# Altium footprint library Linux-Capable-Business-Card.PcbLib: 18 footprints (part 2 of 2)
Each footprint in its own frame and in the unit in brackets; x right, y up, seen from the top. Pads: shape width x height; smd on the part's side, far side on the other; paste and mask are expansions set on the pad; w line width, h text height; cw(c..) or ccw(c..) is an arc to the next point about the centre after c.
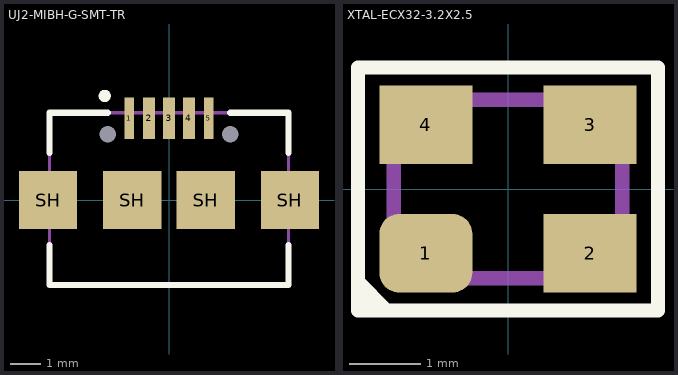
[diagram p1: the footprints below, top view; thin cyan lines are the x and y axes]

## UJ2-MIBH-G-SMT-TR [mm]
height 2.35
pads (11):
  rect 0.3x1.35 smd: 1(-1.3,2.675) 5(1.3,2.675)
  rect 0.4x1.35 smd: 2(-0.65,2.675) 3(0,2.675) 4(0.65,2.675)
  round 0.275 hole 0.55 unplated: MH1(-2,2.15) MH2(2,2.15)
  rect 1.9x1.9 smd: SH(-3.95,0) SH(-1.2,0) SH(1.2,0) SH(3.95,0)
Top Overlay:
  lines w0.2: -3.9,-1.465 -3.9,-2.78 3.9,-2.78 3.9,-1.465 ; -3.9,1.535 -3.9,2.85 -2,2.85 ; -2.007,3.363 cw(c-2.1,3.4) -2,3.4 ; 2,2.85 3.9,2.85 3.9,1.535
Top Assembly:
  lines w0.1: -3.9,-2.78 3.9,-2.78 3.9,2.85 -3.9,2.85 -3.9,-2.78
  text "CONNECTOR SIDE" at -3.4,-2.4 h0.5
  text ".Designator" at -2.5,-0.133 h0.5
3D body "UJ2-MIBH-G-SMT-TR.stp": height 2.69, standoff -0.56, extent -4.05,-2.763 4.05,2.88

## XTAL-ECX32-3.2X2.5 [mm]
height 0.8
pads (4):
  rrect50% 1.3x1.1 smd: 1(-1.15,-0.9)
  rect 1.3x1.1 smd: 2(1.15,-0.9) 3(1.15,0.9) 4(-1.15,0.9)
Top Overlay:
  region: -2.1,-1.3 -1.7,-1.7 -2.1,-1.7
  lines w0.2: -2.1,-1.3 -2.1,-1.7 -1.7,-1.7 ; -2.1,-1.3 -1.7,-1.7 ; -2.1,-1.3 -2.1,1.7 2.1,1.7 2.1,-1.7 -1.7,-1.7
Top Assembly:
  circle w0.2: c-1.1,-0.7 r0.1
  lines w0.2: -1.6,-1.25 -1.6,1.25 1.6,1.25 1.6,-1.25 -1.6,-1.25
  text ".Designator" at -2.5,-0.133 h0.5
3D body "ECS-120-18-33-JEM-TR.stp": height 0.9, standoff 0, extent -1.69,-1.34 1.69,1.34